# Altium schematic symbol library Reference_Voltage.SchLib: 259 symbols (part 1 of 3)
Pins are listed as number, name and electrical type; pins without a type are passive.

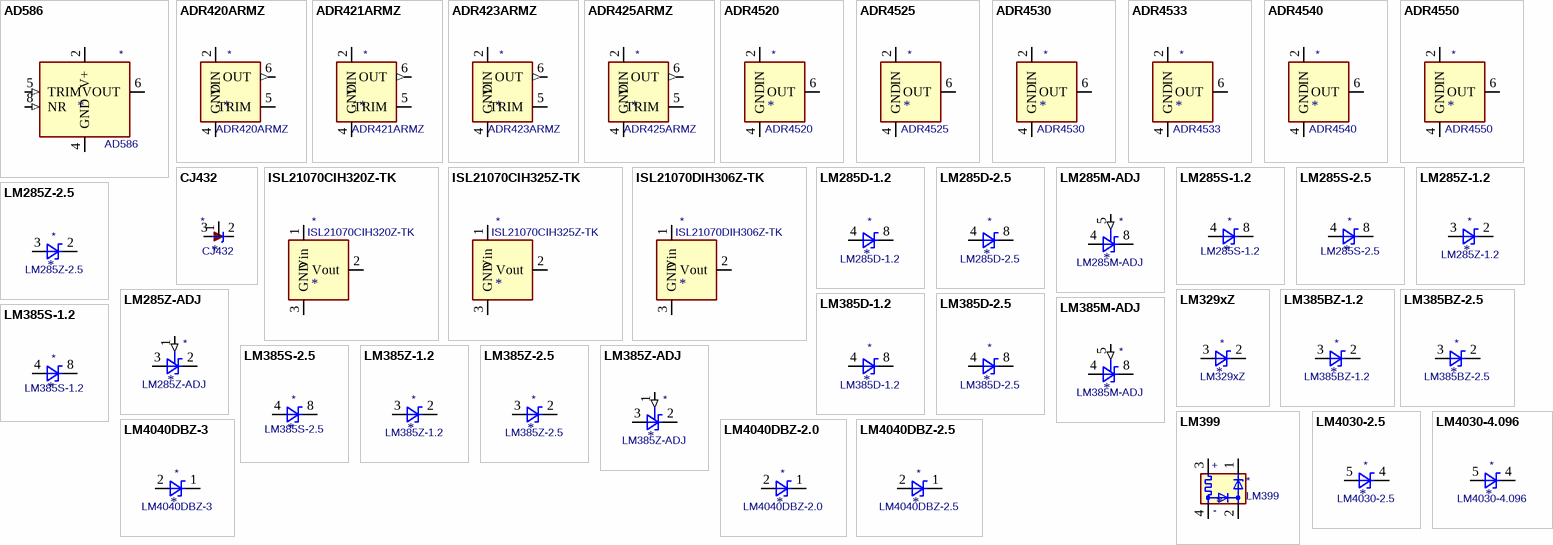
[diagram p0: symbols AD586 to LM4040DBZ-3]

## AD586
designator *  value AD586
ki_keywords: voltage reference; ki_description: High Precision, 5V Reference, DIP-8, SO-8; ki_fp_filters: DIP*W7.62mm* SOIC*3.9x4.9mm*P1.27mm*; Supplier: https://www.analog.com/media/en/technical-documentation/data-sheets/AD586.pdf
pins: 1 NC (in) hidden, 2 V+ (power), 3 NC (in) hidden, 4 GND (power), 5 TRIM (in), 6 VOUT (power), 7 NC (in) hidden, 8 NR (in)

## ADR420ARMZ
designator *  value ADR420ARMZ
ki_keywords: voltage reference Ultraprecision Low Noise; ki_description: 2.048V Voltage Reference, Ultraprecision, Low Noise, MSOP-8; ki_fp_filters: MSOP*3x3mm*P0.65mm*; Footprint: Package_SO:MSOP-8_3x3mm_P0.65mm; Supplier: https://www.analog.com/media/en/technical-documentation/data-sheets/adr420_421_423_425.pdf
footprint MSOP-8_3x3mm_P0.65mm
pins: 1 TP (in) hidden, 2 VIN (power), 3 NC (in) hidden, 4 GND (power), 5 TRIM, 6 OUT (out), 7 NC (in) hidden, 8 TP (in) hidden

## ADR421ARMZ
designator *  value ADR421ARMZ
ki_keywords: 2.5V voltage reference; ki_description: 2.50V Voltage Reference, Ultraprecision, Low Noise, MSOP-8; ki_fp_filters: MSOP*3x3mm*P0.65mm*; Footprint: Package_SO:MSOP-8_3x3mm_P0.65mm; Supplier: https://www.analog.com/media/en/technical-documentation/data-sheets/adr420_421_423_425.pdf
footprint MSOP-8_3x3mm_P0.65mm
pins: 1 TP (in) hidden, 2 VIN (power), 3 NC (in) hidden, 4 GND (power), 5 TRIM, 6 OUT (out), 7 NC (in) hidden, 8 TP (in) hidden

## ADR423ARMZ
designator *  value ADR423ARMZ
ki_keywords: 3V voltage reference; ki_description: 3.00V Voltage Reference, Ultraprecision, Low Noise, MSOP-8; ki_fp_filters: MSOP*3x3mm*P0.65mm*; Footprint: Package_SO:MSOP-8_3x3mm_P0.65mm; Supplier: https://www.analog.com/media/en/technical-documentation/data-sheets/adr420_421_423_425.pdf
footprint MSOP-8_3x3mm_P0.65mm
pins: 1 TP (in) hidden, 2 VIN (power), 3 NC (in) hidden, 4 GND (power), 5 TRIM, 6 OUT (out), 7 NC (in) hidden, 8 TP (in) hidden

## ADR425ARMZ
designator *  value ADR425ARMZ
ki_keywords: 5V voltage reference; ki_description: 5.00V Voltage Reference, Ultraprecision, Low Noise, MSOP-8; ki_fp_filters: MSOP*3x3mm*P0.65mm*; Footprint: Package_SO:MSOP-8_3x3mm_P0.65mm; Supplier: https://www.analog.com/media/en/technical-documentation/data-sheets/adr420_421_423_425.pdf
footprint MSOP-8_3x3mm_P0.65mm
pins: 1 TP (in) hidden, 2 VIN (power), 3 NC (in) hidden, 4 GND (power), 5 TRIM, 6 OUT (out), 7 NC (in) hidden, 8 TP (in) hidden

## ADR4520
designator *  value ADR4520
ki_keywords: vref; ki_description: 2.048V, Ultralow Noise, High Accuracy Voltage Reference, SOIC-8; ki_fp_filters: SOIC*3.9x4.9mm*P1.27mm*; Footprint: Package_SO:SOIC-8_3.9x4.9mm_P1.27mm; Supplier: https://www.analog.com/media/en/technical-documentation/data-sheets/ADR4520_4525_4530_4533_4540_4550.pdf
footprint SOIC-8_3.9x4.9mm_P1.27mm
pins: 1 NC (in) hidden, 2 IN (power), 3 NC (in) hidden, 4 GND (power), 5 NC (in) hidden, 6 OUT (power), 7 NC (in) hidden, 8 NC (in) hidden

## ADR4525
designator *  value ADR4525
ki_keywords: vref; ki_description: 2.5V, Ultralow Noise, High Accuracy Voltage Reference, SOIC-8; ki_fp_filters: SOIC*3.9x4.9mm*P1.27mm*; Footprint: Package_SO:SOIC-8_3.9x4.9mm_P1.27mm; Supplier: https://www.analog.com/media/en/technical-documentation/data-sheets/ADR4520_4525_4530_4533_4540_4550.pdf
footprint SOIC-8_3.9x4.9mm_P1.27mm
pins: 1 NC (in) hidden, 2 IN (power), 3 NC (in) hidden, 4 GND (power), 5 NC (in) hidden, 6 OUT (power), 7 NC (in) hidden, 8 NC (in) hidden

## ADR4530
designator *  value ADR4530
ki_keywords: vref; ki_description: 3.0V,  Ultralow Noise, High Accuracy Voltage Reference, SOIC-8; ki_fp_filters: SOIC*3.9x4.9mm*P1.27mm*; Footprint: Package_SO:SOIC-8_3.9x4.9mm_P1.27mm; Supplier: https://www.analog.com/media/en/technical-documentation/data-sheets/ADR4520_4525_4530_4533_4540_4550.pdf
footprint SOIC-8_3.9x4.9mm_P1.27mm
pins: 1 NC (in) hidden, 2 IN (power), 3 NC (in) hidden, 4 GND (power), 5 NC (in) hidden, 6 OUT (power), 7 NC (in) hidden, 8 NC (in) hidden

## ADR4533
designator *  value ADR4533
ki_keywords: vref; ki_description: 3.3V,  Ultralow Noise, High Accuracy Voltage Reference, SOIC-8; ki_fp_filters: SOIC*3.9x4.9mm*P1.27mm*; Footprint: Package_SO:SOIC-8_3.9x4.9mm_P1.27mm; Supplier: https://www.analog.com/media/en/technical-documentation/data-sheets/ADR4520_4525_4530_4533_4540_4550.pdf
footprint SOIC-8_3.9x4.9mm_P1.27mm
pins: 1 NC (in) hidden, 2 IN (power), 3 NC (in) hidden, 4 GND (power), 5 NC (in) hidden, 6 OUT (power), 7 NC (in) hidden, 8 NC (in) hidden

## ADR4540
designator *  value ADR4540
ki_keywords: vref; ki_description: 4.096V,  Ultralow Noise, High Accuracy Voltage Reference, SOIC-8; ki_fp_filters: SOIC*3.9x4.9mm*P1.27mm*; Footprint: Package_SO:SOIC-8_3.9x4.9mm_P1.27mm; Supplier: https://www.analog.com/media/en/technical-documentation/data-sheets/ADR4520_4525_4530_4533_4540_4550.pdf
footprint SOIC-8_3.9x4.9mm_P1.27mm
pins: 1 NC (in) hidden, 2 IN (power), 3 NC (in) hidden, 4 GND (power), 5 NC (in) hidden, 6 OUT (power), 7 NC (in) hidden, 8 NC (in) hidden

## ADR4550
designator *  value ADR4550
ki_keywords: vref; ki_description: 5.0V,  Ultralow Noise, High Accuracy Voltage Reference, SOIC-8; ki_fp_filters: SOIC*3.9x4.9mm*P1.27mm*; Footprint: Package_SO:SOIC-8_3.9x4.9mm_P1.27mm; Supplier: https://www.analog.com/media/en/technical-documentation/data-sheets/ADR4520_4525_4530_4533_4540_4550.pdf
footprint SOIC-8_3.9x4.9mm_P1.27mm
pins: 1 NC (in) hidden, 2 IN (power), 3 NC (in) hidden, 4 GND (power), 5 NC (in) hidden, 6 OUT (power), 7 NC (in) hidden, 8 NC (in) hidden

## CJ432
designator *  value CJ432
ki_keywords: diode device shunt regulator; ki_description: Shunt Regulator, SOT-23; ki_fp_filters: SOT?23*; Footprint: Package_TO_SOT_SMD:SOT-23; Supplier: http://www.cj-elec.com/txUpfile/20134181474991806.pdf
footprint SOT-23
pins: 1 REF, 2 K, 3 A

## ISL21070CIH320Z-TK
designator *  value ISL21070CIH320Z-TK
ki_keywords: Micropower Voltage Reference 2.0V; ki_description: 2.0V 25μA Micropower Voltage Reference, SOT-23; ki_fp_filters: SOT?23*; Footprint: Package_TO_SOT_SMD:SOT-23; Supplier: http://www.intersil.com/content/dam/Intersil/documents/fn75/fn7599.pdf
footprint SOT-23
pins: 1 Vin (power), 2 Vout (power), 3 GND (power)

## ISL21070CIH325Z-TK
designator *  value ISL21070CIH325Z-TK
ki_keywords: Micropower Voltage Reference 2.5V; ki_description: 2.5V 25μA Micropower Voltage Reference, SOT-23; ki_fp_filters: SOT?23*; Footprint: Package_TO_SOT_SMD:SOT-23; Supplier: http://www.intersil.com/content/dam/Intersil/documents/fn75/fn7599.pdf
footprint SOT-23
pins: 1 Vin (power), 2 Vout (power), 3 GND (power)

## ISL21070DIH306Z-TK
designator *  value ISL21070DIH306Z-TK
ki_keywords: Micropower Voltage Reference 0.6V; ki_description: 0.6V 25μA Micropower Voltage Reference, SOT-23; ki_fp_filters: SOT?23*; Footprint: Package_TO_SOT_SMD:SOT-23; Supplier: http://www.intersil.com/content/dam/Intersil/documents/fn75/fn7599.pdf
footprint SOT-23
pins: 1 Vin (power), 2 Vout (power), 3 GND (power)

## LM285D-1.2
designator *  value LM285D-1.2
ki_keywords: diode device voltage reference; ki_description: 1.235V Micropower Voltage Reference Diodes, SO-8; ki_fp_filters: SOIC?8*3.9x4.9m*P1.27mm*; Footprint: Package_SO:SOIC-8_3.9x4.9mm_P1.27mm; Supplier: http://www.onsemi.com/pub_link/Collateral/LM285-D.PDF
footprint SOIC-8_3.9x4.9mm_P1.27mm
pins: 4 A, 8 K

## LM285D-2.5
designator *  value LM285D-2.5
ki_keywords: diode device voltage reference; ki_description: 2.500V Micropower Voltage Reference Diodes, SO-8; ki_fp_filters: SOIC?8*3.9x4.9m*P1.27mm*; Footprint: Package_SO:SOIC-8_3.9x4.9mm_P1.27mm; Supplier: http://www.onsemi.com/pub_link/Collateral/LM285-D.PDF
footprint SOIC-8_3.9x4.9mm_P1.27mm
pins: 4 A, 8 K

## LM285M-ADJ
designator *  value LM285M-ADJ
ki_keywords: diode device voltage reference; ki_description: Adjustable Micropower Voltage Reference Diodes, SO-8; ki_fp_filters: SOIC?8*3.9x4.9m*P1.27mm*; Footprint: Package_SO:SOIC-8_3.9x4.9mm_P1.27mm; Supplier: http://www.ti.com/lit/ds/symlink/lm185-adj.pdf
footprint SOIC-8_3.9x4.9mm_P1.27mm
pins: 4 A, 5 FB (in), 8 K

## LM285S-1.2
designator *  value LM285S-1.2
ki_keywords: diode device voltage reference; ki_description: 1.235V Micropower Voltage Reference Diodes, SO-8; ki_fp_filters: SOIC?8*3.9x4.9m*P1.27mm*; Footprint: Package_SO:SOIC-8_3.9x4.9mm_P1.27mm; Supplier: https://www.analog.com/media/en/technical-documentation/data-sheets/185fc.pdf
footprint SOIC-8_3.9x4.9mm_P1.27mm
pins: 4 A, 6 K hidden, 8 K

## LM285S-2.5
designator *  value LM285S-2.5
ki_keywords: diode device voltage reference; ki_description: 2.500V Micropower Voltage Reference Diodes, SO-8; ki_fp_filters: SOIC?8*3.9x4.9m*P1.27mm*; Footprint: Package_SO:SOIC-8_3.9x4.9mm_P1.27mm; Supplier: https://www.analog.com/media/en/technical-documentation/data-sheets/185fc.pdf
footprint SOIC-8_3.9x4.9mm_P1.27mm
pins: 4 A, 6 K hidden, 8 K

## LM285Z-1.2
designator *  value LM285Z-1.2
ki_keywords: diode device voltage reference; ki_description: 1.235V Micropower Voltage Reference Diodes, TO-92; ki_fp_filters: TO?92*Inline*; Footprint: Package_TO_SOT_THT:TO-92_Inline; Supplier: http://www.onsemi.com/pub_link/Collateral/LM285-D.PDF
footprint TO-92_Inline
pins: 2 K, 3 A

## LM285Z-2.5
designator *  value LM285Z-2.5
ki_keywords: diode device voltage reference; ki_description: 2.5V Micropower Voltage Reference Diodes, TO-92; ki_fp_filters: TO?92*Inline*; Footprint: Package_TO_SOT_THT:TO-92_Inline; Supplier: http://www.onsemi.com/pub_link/Collateral/LM285-D.PDF
footprint TO-92_Inline
pins: 2 K, 3 A

## LM285Z-ADJ
designator *  value LM285Z-ADJ
ki_keywords: diode device voltage reference; ki_description: Adjustable Micropower Voltage Reference Diodes, TO-92; ki_fp_filters: TO?92*; Footprint: Package_TO_SOT_THT:TO-92_Inline; Supplier: http://www.ti.com/lit/ds/symlink/lm185-adj.pdf
footprint TO-92_Inline
pins: 1 FB (in), 2 K, 3 A

## LM329xZ
designator *  value LM329xZ
ki_keywords: diode device voltage reference shunt; ki_description: 6.9V Precision Voltage Reference, TO-92; ki_fp_filters: TO?92*; Footprint: Package_TO_SOT_THT:TO-92_Inline; Supplier: https://www.analog.com/media/en/technical-documentation/data-sheets/129329fd.pdf
footprint TO-92_Inline
pins: 1 NC (in) hidden, 2 K, 3 A

## LM385BZ-1.2
designator *  value LM385BZ-1.2
ki_keywords: diode device voltage reference; ki_description: 1.235V Micropower Voltage Reference Diodes, TO-92; ki_fp_filters: TO?92*Inline*; Footprint: Package_TO_SOT_THT:TO-92_Inline; Supplier: http://www.onsemi.com/pub_link/Collateral/LM285-D.PDF
footprint TO-92_Inline
pins: 2 K, 3 A

## LM385BZ-2.5
designator *  value LM385BZ-2.5
ki_keywords: diode device voltage reference; ki_description: 2.5V Micropower Voltage Reference Diodes, TO-92; ki_fp_filters: TO?92*Inline*; Footprint: Package_TO_SOT_THT:TO-92_Inline; Supplier: http://www.onsemi.com/pub_link/Collateral/LM285-D.PDF
footprint TO-92_Inline
pins: 2 K, 3 A

## LM385D-1.2
designator *  value LM385D-1.2
ki_keywords: diode device voltage reference; ki_description: 1.235V Micropower Voltage Reference Diodes, SO-8; ki_fp_filters: SOIC?8*3.9x4.9m*P1.27mm*; Footprint: Package_SO:SOIC-8_3.9x4.9mm_P1.27mm; Supplier: http://www.onsemi.com/pub_link/Collateral/LM285-D.PDF
footprint SOIC-8_3.9x4.9mm_P1.27mm
pins: 4 A, 8 K

## LM385D-2.5
designator *  value LM385D-2.5
ki_keywords: diode device voltage reference; ki_description: 2.500V Micropower Voltage Reference Diodes, SO-8; ki_fp_filters: SOIC?8*3.9x4.9m*P1.27mm*; Footprint: Package_SO:SOIC-8_3.9x4.9mm_P1.27mm; Supplier: http://www.onsemi.com/pub_link/Collateral/LM285-D.PDF
footprint SOIC-8_3.9x4.9mm_P1.27mm
pins: 4 A, 8 K

## LM385M-ADJ
designator *  value LM385M-ADJ
ki_keywords: diode device voltage reference; ki_description: Adjustable Micropower Voltage Reference Diodes, SO-8; ki_fp_filters: SOIC?8*3.9x4.9m*P1.27mm*; Footprint: Package_SO:SOIC-8_3.9x4.9mm_P1.27mm; Supplier: http://www.ti.com/lit/ds/symlink/lm185-adj.pdf
footprint SOIC-8_3.9x4.9mm_P1.27mm
pins: 4 A, 5 FB (in), 8 K

## LM385S-1.2
designator *  value LM385S-1.2
ki_keywords: diode device voltage reference; ki_description: 1.235V Micropower Voltage Reference Diodes, SO-8; ki_fp_filters: SOIC?8*3.9x4.9m*P1.27mm*; Footprint: Package_SO:SOIC-8_3.9x4.9mm_P1.27mm; Supplier: https://www.analog.com/media/en/technical-documentation/data-sheets/185fc.pdf
footprint SOIC-8_3.9x4.9mm_P1.27mm
pins: 4 A, 6 K hidden, 8 K

## LM385S-2.5
designator *  value LM385S-2.5
ki_keywords: diode device voltage reference; ki_description: 2.500V Micropower Voltage Reference Diodes, SO-8; ki_fp_filters: SOIC?8*3.9x4.9m*P1.27mm*; Footprint: Package_SO:SOIC-8_3.9x4.9mm_P1.27mm; Supplier: https://www.analog.com/media/en/technical-documentation/data-sheets/185fc.pdf
footprint SOIC-8_3.9x4.9mm_P1.27mm
pins: 4 A, 6 K hidden, 8 K

## LM385Z-1.2
designator *  value LM385Z-1.2
ki_keywords: diode device voltage reference; ki_description: 1.235V Micropower Voltage Reference Diodes, TO-92; ki_fp_filters: TO?92*Inline*; Footprint: Package_TO_SOT_THT:TO-92_Inline; Supplier: http://www.onsemi.com/pub_link/Collateral/LM285-D.PDF
footprint TO-92_Inline
pins: 2 K, 3 A

## LM385Z-2.5
designator *  value LM385Z-2.5
ki_keywords: diode device voltage reference; ki_description: 2.5V Micropower Voltage Reference Diodes, TO-92; ki_fp_filters: TO?92*Inline*; Footprint: Package_TO_SOT_THT:TO-92_Inline; Supplier: http://www.onsemi.com/pub_link/Collateral/LM285-D.PDF
footprint TO-92_Inline
pins: 2 K, 3 A

## LM385Z-ADJ
designator *  value LM385Z-ADJ
ki_keywords: diode device voltage reference; ki_description: Adjustable Micropower Voltage Reference Diodes, TO-92; ki_fp_filters: TO?92*; Footprint: Package_TO_SOT_THT:TO-92_Inline; Supplier: http://www.ti.com/lit/ds/symlink/lm185-adj.pdf
footprint TO-92_Inline
pins: 1 FB (in), 2 K, 3 A

## LM399
designator *  value LM399
ki_keywords: Zener diode device voltage reference; ki_description: Precision Reference, 6.95V, Buried Zener Diode with Thermal Shielding Can, TO-46-4; ki_fp_filters: Analog*TO?46*; Footprint: Package_TO_SOT_THT:Analog_TO-46-4_ThermalShield; Supplier: https://www.analog.com/media/en/technical-documentation/data-sheets/199399fc.pdf
footprint Analog_TO-46-4_ThermalShield
pins: 1, 2, 3 (power), 4 (power)
text: +; -

## LM4030-2.5
designator *  value LM4030-2.5
ki_keywords: diode device voltage reference shunt; ki_description: 2.500V Ultra-High Precision Shunt Voltage Reference, SOT-23-5; ki_fp_filters: SOT?23?5*; Footprint: Package_TO_SOT_SMD:SOT-23-5; Supplier: http://www.ti.com/lit/ds/symlink/lm4030.pdf
footprint SOT-23-5
pins: 4 K, 5 A

## LM4030-4.096
designator *  value LM4030-4.096
ki_keywords: diode device voltage reference shunt; ki_description: 4.096V Ultra-High Precision Shunt Voltage Reference, SOT-23-5; ki_fp_filters: SOT?23?5*; Footprint: Package_TO_SOT_SMD:SOT-23-5; Supplier: http://www.ti.com/lit/ds/symlink/lm4030.pdf
footprint SOT-23-5
pins: 4 K, 5 A

## LM4040DBZ-2.0
designator *  value LM4040DBZ-2.0
ki_keywords: diode device voltage reference shunt; ki_description: 2.048V Precision Micropower Shunt Voltage Reference, SOT-23; ki_fp_filters: SOT?23*; Footprint: Package_TO_SOT_SMD:SOT-23; Supplier: http://www.ti.com/lit/ds/symlink/lm4040-n.pdf
footprint SOT-23
pins: 1 K, 2 A

## LM4040DBZ-2.5
designator *  value LM4040DBZ-2.5
ki_keywords: diode device voltage reference shunt; ki_description: 2.500V Precision Micropower Shunt Voltage Reference, SOT-23; ki_fp_filters: SOT?23*; Footprint: Package_TO_SOT_SMD:SOT-23; Supplier: http://www.ti.com/lit/ds/symlink/lm4040-n.pdf
footprint SOT-23
pins: 1 K, 2 A

## LM4040DBZ-3
designator *  value LM4040DBZ-3
ki_keywords: diode device voltage reference shunt; ki_description: 3.000V Precision Micropower Shunt Voltage Reference, SOT-23; ki_fp_filters: SOT?23*; Footprint: Package_TO_SOT_SMD:SOT-23; Supplier: http://www.ti.com/lit/ds/symlink/lm4040-n.pdf
footprint SOT-23
pins: 1 K, 2 A

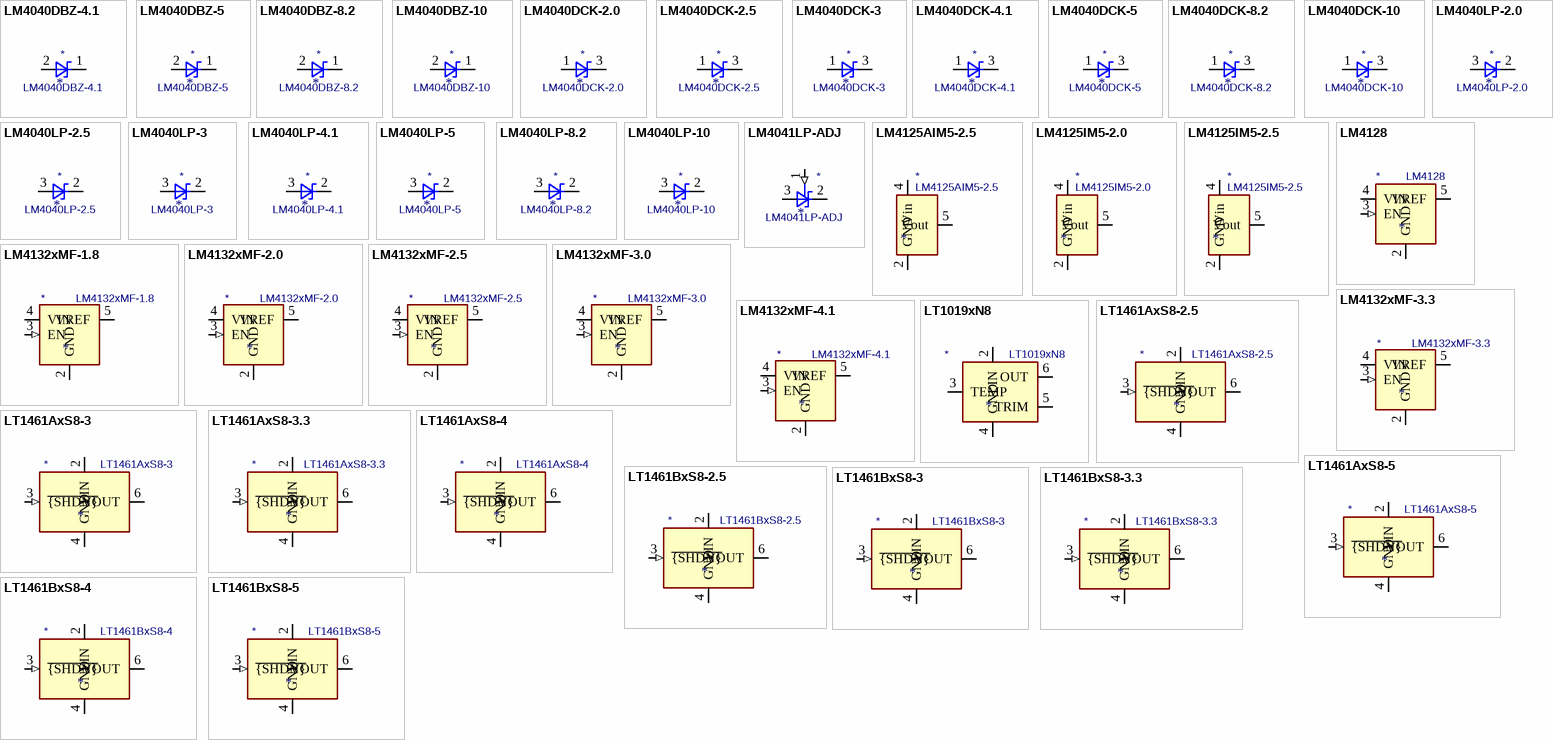
[diagram p1: symbols LM4040DBZ-4.1 to LT1461BxS8-5]

## LM4040DBZ-4.1
designator *  value LM4040DBZ-4.1
ki_keywords: diode device voltage reference shunt; ki_description: 4.096V Precision Micropower Shunt Voltage Reference, SOT-23; ki_fp_filters: SOT?23*; Footprint: Package_TO_SOT_SMD:SOT-23; Supplier: http://www.ti.com/lit/ds/symlink/lm4040-n.pdf
footprint SOT-23
pins: 1 K, 2 A

## LM4040DBZ-5
designator *  value LM4040DBZ-5
ki_keywords: diode device voltage reference shunt; ki_description: 5.000V Precision Micropower Shunt Voltage Reference, SOT-23; ki_fp_filters: SOT?23*; Footprint: Package_TO_SOT_SMD:SOT-23; Supplier: http://www.ti.com/lit/ds/symlink/lm4040-n.pdf
footprint SOT-23
pins: 1 K, 2 A

## LM4040DBZ-8.2
designator *  value LM4040DBZ-8.2
ki_keywords: diode device voltage reference shunt; ki_description: 8.192V Precision Micropower Shunt Voltage Reference, SOT-23; ki_fp_filters: SOT?23*; Footprint: Package_TO_SOT_SMD:SOT-23; Supplier: http://www.ti.com/lit/ds/symlink/lm4040-n.pdf
footprint SOT-23
pins: 1 K, 2 A

## LM4040DBZ-10
designator *  value LM4040DBZ-10
ki_keywords: diode device voltage reference shunt; ki_description: 10.00V Precision Micropower Shunt Voltage Reference, SOT-23; ki_fp_filters: SOT?23*; Footprint: Package_TO_SOT_SMD:SOT-23; Supplier: http://www.ti.com/lit/ds/symlink/lm4040-n.pdf
footprint SOT-23
pins: 1 K, 2 A

## LM4040DCK-2.0
designator *  value LM4040DCK-2.0
ki_keywords: diode device voltage reference shunt; ki_description: 2.048V Precision Micropower Shunt Voltage Reference, SC-70; ki_fp_filters: SOT?353*; Footprint: Package_TO_SOT_SMD:SOT-353_SC-70-5; Supplier: http://www.ti.com/lit/ds/symlink/lm4040-n.pdf
footprint SOT-353_SC-70-5
pins: 1 A, 3 K

## LM4040DCK-2.5
designator *  value LM4040DCK-2.5
ki_keywords: diode device voltage reference shunt; ki_description: 2.500V Precision Micropower Shunt Voltage Reference, SC-70; ki_fp_filters: SOT?353*; Footprint: Package_TO_SOT_SMD:SOT-353_SC-70-5; Supplier: http://www.ti.com/lit/ds/symlink/lm4040-n.pdf
footprint SOT-353_SC-70-5
pins: 1 A, 3 K

## LM4040DCK-3
designator *  value LM4040DCK-3
ki_keywords: diode device voltage reference shunt; ki_description: 3.000V Precision Micropower Shunt Voltage Reference, SC-70; ki_fp_filters: SOT?353*; Footprint: Package_TO_SOT_SMD:SOT-353_SC-70-5; Supplier: http://www.ti.com/lit/ds/symlink/lm4040-n.pdf
footprint SOT-353_SC-70-5
pins: 1 A, 3 K

## LM4040DCK-4.1
designator *  value LM4040DCK-4.1
ki_keywords: diode device voltage reference shunt; ki_description: 4.096V Precision Micropower Shunt Voltage Reference, SC-70; ki_fp_filters: SOT?353*; Footprint: Package_TO_SOT_SMD:SOT-353_SC-70-5; Supplier: http://www.ti.com/lit/ds/symlink/lm4040-n.pdf
footprint SOT-353_SC-70-5
pins: 1 A, 3 K

## LM4040DCK-5
designator *  value LM4040DCK-5
ki_keywords: diode device voltage reference shunt; ki_description: 5.000V Precision Micropower Shunt Voltage Reference, SC-70; ki_fp_filters: SOT?353*; Footprint: Package_TO_SOT_SMD:SOT-353_SC-70-5; Supplier: http://www.ti.com/lit/ds/symlink/lm4040-n.pdf
footprint SOT-353_SC-70-5
pins: 1 A, 3 K

## LM4040DCK-8.2
designator *  value LM4040DCK-8.2
ki_keywords: diode device voltage reference shunt; ki_description: 8.192V Precision Micropower Shunt Voltage Reference, SC-70; ki_fp_filters: SOT?353*; Footprint: Package_TO_SOT_SMD:SOT-353_SC-70-5; Supplier: http://www.ti.com/lit/ds/symlink/lm4040-n.pdf
footprint SOT-353_SC-70-5
pins: 1 A, 3 K

## LM4040DCK-10
designator *  value LM4040DCK-10
ki_keywords: diode device voltage reference shunt; ki_description: 10.0V Precision Micropower Shunt Voltage Reference, SC-70; ki_fp_filters: SOT?353*; Footprint: Package_TO_SOT_SMD:SOT-353_SC-70-5; Supplier: http://www.ti.com/lit/ds/symlink/lm4040-n.pdf
footprint SOT-353_SC-70-5
pins: 1 A, 3 K

## LM4040LP-2.0
designator *  value LM4040LP-2.0
ki_keywords: diode device voltage reference shunt; ki_description: 2.048V Precision Micropower Shunt Voltage Reference, TO-92; ki_fp_filters: TO?92*Inline*; Footprint: Package_TO_SOT_THT:TO-92_Inline; Supplier: http://www.ti.com/lit/ds/symlink/lm4040-n.pdf
footprint TO-92_Inline
pins: 2 K, 3 A

## LM4040LP-2.5
designator *  value LM4040LP-2.5
ki_keywords: diode device voltage reference shunt; ki_description: 2.500V Precision Micropower Shunt Voltage Reference, TO-92; ki_fp_filters: TO?92*Inline*; Footprint: Package_TO_SOT_THT:TO-92_Inline; Supplier: http://www.ti.com/lit/ds/symlink/lm4040-n.pdf
footprint TO-92_Inline
pins: 2 K, 3 A

## LM4040LP-3
designator *  value LM4040LP-3
ki_keywords: diode device voltage reference shunt; ki_description: 3.000V Precision Micropower Shunt Voltage Reference, TO-92; ki_fp_filters: TO?92*Inline*; Footprint: Package_TO_SOT_THT:TO-92_Inline; Supplier: http://www.ti.com/lit/ds/symlink/lm4040-n.pdf
footprint TO-92_Inline
pins: 2 K, 3 A

## LM4040LP-4.1
designator *  value LM4040LP-4.1
ki_keywords: diode device voltage reference shunt; ki_description: 4.096V Precision Micropower Shunt Voltage Reference, TO-92; ki_fp_filters: TO?92*Inline*; Footprint: Package_TO_SOT_THT:TO-92_Inline; Supplier: http://www.ti.com/lit/ds/symlink/lm4040-n.pdf
footprint TO-92_Inline
pins: 2 K, 3 A

## LM4040LP-5
designator *  value LM4040LP-5
ki_keywords: diode device voltage reference shunt; ki_description: 5.000V Precision Micropower Shunt Voltage Reference, TO-92; ki_fp_filters: TO?92*Inline*; Footprint: Package_TO_SOT_THT:TO-92_Inline; Supplier: http://www.ti.com/lit/ds/symlink/lm4040-n.pdf
footprint TO-92_Inline
pins: 2 K, 3 A

## LM4040LP-8.2
designator *  value LM4040LP-8.2
ki_keywords: diode device voltage reference shunt; ki_description: 8.192V Precision Micropower Shunt Voltage Reference, TO-92; ki_fp_filters: TO?92*Inline*; Footprint: Package_TO_SOT_THT:TO-92_Inline; Supplier: http://www.ti.com/lit/ds/symlink/lm4040-n.pdf
footprint TO-92_Inline
pins: 2 K, 3 A

## LM4040LP-10
designator *  value LM4040LP-10
ki_keywords: diode device voltage reference shunt; ki_description: 10.00V Precision Micropower Shunt Voltage Reference, TO-92; ki_fp_filters: TO?92*Inline*; Footprint: Package_TO_SOT_THT:TO-92_Inline; Supplier: http://www.ti.com/lit/ds/symlink/lm4040-n.pdf
footprint TO-92_Inline
pins: 2 K, 3 A

## LM4041LP-ADJ
designator *  value LM4041LP-ADJ
ki_keywords: diode device voltage reference shunt; ki_description: Adjustable Precision Micropower Shunt Voltage Reference, TO-92; ki_fp_filters: TO?92*; Footprint: Package_TO_SOT_THT:TO-92_Inline; Supplier: http://www.ti.com/lit/ds/symlink/lm4041-n.pdf
footprint TO-92_Inline
pins: 1 FB (in), 2 K, 3 A

## LM4125AIM5-2.5
designator *  value LM4125AIM5-2.5
ki_keywords: Precision Micropower Low Dropout Voltage Reference 2.5V; ki_description: 2.5V ±0.2% Precision Micropower Low Dropout Voltage Reference, SOT-23-5; ki_fp_filters: SOT?23*; Footprint: Package_TO_SOT_SMD:SOT-23-5; Supplier: http://www.ti.com/lit/ds/symlink/lm4125.pdf
footprint SOT-23-5
pins: 1 NC (in) hidden, 2 GND (power), 3 NC (in) hidden, 4 Vin (power), 5 Vout (power)

## LM4125IM5-2.0
designator *  value LM4125IM5-2.0
ki_keywords: Precision Micropower Low Dropout Voltage Reference 2V; ki_description: 2V ±0.5% Precision Micropower Low Dropout Voltage Reference, SOT-23-5; ki_fp_filters: SOT?23*; Footprint: Package_TO_SOT_SMD:SOT-23-5; Supplier: http://www.ti.com/lit/ds/symlink/lm4125.pdf
footprint SOT-23-5
pins: 1 NC (in) hidden, 2 GND (power), 3 NC (in) hidden, 4 Vin (power), 5 Vout (power)

## LM4125IM5-2.5
designator *  value LM4125IM5-2.5
ki_keywords: Precision Micropower Low Dropout Voltage Reference 2.5V; ki_description: 2.5V ±0.5% Precision Micropower Low Dropout Voltage Reference, SOT-23-5; ki_fp_filters: SOT?23*; Footprint: Package_TO_SOT_SMD:SOT-23-5; Supplier: http://www.ti.com/lit/ds/symlink/lm4125.pdf
footprint SOT-23-5
pins: 1 NC (in) hidden, 2 GND (power), 3 NC (in) hidden, 4 Vin (power), 5 Vout (power)

## LM4128
designator *  value LM4128
ki_keywords: Precision Micropower Low Dropout Voltage Reference 2.5V; ki_description: 2.5V ±0.2% Precision Micropower Low Dropout Voltage Reference, SOT-23-5; ki_fp_filters: SOT?23*; Footprint: Package_TO_SOT_SMD:SOT-23-5; Supplier: http://www.ti.com/lit/ds/symlink/lm4128.pdf
footprint SOT-23-5
pins: 1 NC (in) hidden, 2 GND (power), 3 EN (in), 4 VIN (power), 5 VREF (power)

## LM4132xMF-1.8
designator *  value LM4132xMF-1.8
ki_keywords: Precision Low Dropout Voltage Reference 1.8V; ki_description: Precision Low Dropout Voltage Reference, 1.8V, ±0.05% to ±0.5%, SOT-23-5; ki_fp_filters: SOT?23*; Footprint: Package_TO_SOT_SMD:SOT-23-5; Supplier: http://www.ti.com/lit/ds/symlink/lm4132.pdf
footprint SOT-23-5
pins: 1 NC (in) hidden, 2 GND (power), 3 EN (in), 4 VIN (power), 5 VREF (power)

## LM4132xMF-2.0
designator *  value LM4132xMF-2.0
ki_keywords: Precision Low Dropout Voltage Reference 2.048V; ki_description: Precision Low Dropout Voltage Reference, 2.048V, ±0.05% to ±0.5%, SOT-23-5; ki_fp_filters: SOT?23*; Footprint: Package_TO_SOT_SMD:SOT-23-5; Supplier: http://www.ti.com/lit/ds/symlink/lm4132.pdf
footprint SOT-23-5
pins: 1 NC (in) hidden, 2 GND (power), 3 EN (in), 4 VIN (power), 5 VREF (power)

## LM4132xMF-2.5
designator *  value LM4132xMF-2.5
ki_keywords: Precision Low Dropout Voltage Reference 2.5V; ki_description: Precision Low Dropout Voltage Reference, 2.5V, ±0.05% to ±0.5%, SOT-23-5; ki_fp_filters: SOT?23*; Footprint: Package_TO_SOT_SMD:SOT-23-5; Supplier: http://www.ti.com/lit/ds/symlink/lm4132.pdf
footprint SOT-23-5
pins: 1 NC (in) hidden, 2 GND (power), 3 EN (in), 4 VIN (power), 5 VREF (power)

## LM4132xMF-3.0
designator *  value LM4132xMF-3.0
ki_keywords: Precision Low Dropout Voltage Reference 3.0V; ki_description: Precision Low Dropout Voltage Reference, 3.0V, ±0.05% to ±0.5%, SOT-23-5; ki_fp_filters: SOT?23*; Footprint: Package_TO_SOT_SMD:SOT-23-5; Supplier: http://www.ti.com/lit/ds/symlink/lm4132.pdf
footprint SOT-23-5
pins: 1 NC (in) hidden, 2 GND (power), 3 EN (in), 4 VIN (power), 5 VREF (power)

## LM4132xMF-3.3
designator *  value LM4132xMF-3.3
ki_keywords: Precision Low Dropout Voltage Reference 3.3V; ki_description: Precision Low Dropout Voltage Reference, 3.3V, ±0.05% to ±0.5%, SOT-23-5; ki_fp_filters: SOT?23*; Footprint: Package_TO_SOT_SMD:SOT-23-5; Supplier: http://www.ti.com/lit/ds/symlink/lm4132.pdf
footprint SOT-23-5
pins: 1 NC (in) hidden, 2 GND (power), 3 EN (in), 4 VIN (power), 5 VREF (power)

## LM4132xMF-4.1
designator *  value LM4132xMF-4.1
ki_keywords: Precision Low Dropout Voltage Reference 4.096V; ki_description: Precision Low Dropout Voltage Reference, 4.096V, ±0.05% to ±0.5%, SOT-23-5; ki_fp_filters: SOT?23*; Footprint: Package_TO_SOT_SMD:SOT-23-5; Supplier: http://www.ti.com/lit/ds/symlink/lm4132.pdf
footprint SOT-23-5
pins: 1 NC (in) hidden, 2 GND (power), 3 EN (in), 4 VIN (power), 5 VREF (power)

## LT1019xN8
designator *  value LT1019xN8
ki_keywords: voltage reference vref; ki_description: Precision Reference, Ultra Low Drift, DIP-8; ki_fp_filters: DIP*W7.62mm*; Footprint: Package_DIP:DIP-8_W7.62mm; Supplier: https://www.analog.com/media/en/technical-documentation/data-sheets/1019fd.pdf
footprint DIP-8_W7.62mm
pins: 1 DNC (in) hidden, 2 IN (power), 3 TEMP, 4 GND (power), 5 TRIM, 6 OUT (power), 7 DNC (in) hidden, 8 DNC (in) hidden

## LT1461AxS8-2.5
designator *  value LT1461AxS8-2.5
ki_keywords: voltage reference precision; ki_description: Voltage Reference, +/-0.04%, 2.5V, 100mA, 3V-20V Vin, SOIC-8; ki_fp_filters: SOIC*3.9x4.9mm*P1.27mm*; Footprint: Package_SO:SOIC-8_3.9x4.9mm_P1.27mm; Supplier: https://www.analog.com/media/en/technical-documentation/data-sheets/LT1461.pdf
footprint SOIC-8_3.9x4.9mm_P1.27mm
pins: 1 DNC (in) hidden, 2 VIN (power), 3 ~{{SHDN}} (in), 4 GND (power), 5 DNC (in) hidden, 6 VOUT (power), 7 DNC (in) hidden, 8 DNC (in) hidden

## LT1461AxS8-3
designator *  value LT1461AxS8-3
ki_keywords: voltage reference precision; ki_description: Voltage Reference, +/-0.04%, 3V, 100mA, 3.5V-20V Vin, SOIC-8; ki_fp_filters: SOIC*3.9x4.9mm*P1.27mm*; Footprint: Package_SO:SOIC-8_3.9x4.9mm_P1.27mm; Supplier: https://www.analog.com/media/en/technical-documentation/data-sheets/LT1461.pdf
footprint SOIC-8_3.9x4.9mm_P1.27mm
pins: 1 DNC (in) hidden, 2 VIN (power), 3 ~{{SHDN}} (in), 4 GND (power), 5 DNC (in) hidden, 6 VOUT (power), 7 DNC (in) hidden, 8 DNC (in) hidden

## LT1461AxS8-3.3
designator *  value LT1461AxS8-3.3
ki_keywords: voltage reference precision; ki_description: Voltage Reference, +/-0.04%, 3.3V, 100mA, 3.8V-20V Vin, SOIC-8; ki_fp_filters: SOIC*3.9x4.9mm*P1.27mm*; Footprint: Package_SO:SOIC-8_3.9x4.9mm_P1.27mm; Supplier: https://www.analog.com/media/en/technical-documentation/data-sheets/LT1461.pdf
footprint SOIC-8_3.9x4.9mm_P1.27mm
pins: 1 DNC (in) hidden, 2 VIN (power), 3 ~{{SHDN}} (in), 4 GND (power), 5 DNC (in) hidden, 6 VOUT (power), 7 DNC (in) hidden, 8 DNC (in) hidden

## LT1461AxS8-4
designator *  value LT1461AxS8-4
ki_keywords: voltage reference precision; ki_description: Voltage Reference, +/-0.04%, 4.096V, 100mA, 4.596V-20V Vin, SOIC-8; ki_fp_filters: SOIC*3.9x4.9mm*P1.27mm*; Footprint: Package_SO:SOIC-8_3.9x4.9mm_P1.27mm; Supplier: https://www.analog.com/media/en/technical-documentation/data-sheets/LT1461.pdf
footprint SOIC-8_3.9x4.9mm_P1.27mm
pins: 1 DNC (in) hidden, 2 VIN (power), 3 ~{{SHDN}} (in), 4 GND (power), 5 DNC (in) hidden, 6 VOUT (power), 7 DNC (in) hidden, 8 DNC (in) hidden

## LT1461AxS8-5
designator *  value LT1461AxS8-5
ki_keywords: voltage reference precision; ki_description: Voltage Reference, +/-0.04%, 5V, 100mA, 5.5V-20V Vin, SOIC-8; ki_fp_filters: SOIC*3.9x4.9mm*P1.27mm*; Footprint: Package_SO:SOIC-8_3.9x4.9mm_P1.27mm; Supplier: https://www.analog.com/media/en/technical-documentation/data-sheets/LT1461.pdf
footprint SOIC-8_3.9x4.9mm_P1.27mm
pins: 1 DNC (in) hidden, 2 VIN (power), 3 ~{{SHDN}} (in), 4 GND (power), 5 DNC (in) hidden, 6 VOUT (power), 7 DNC (in) hidden, 8 DNC (in) hidden

## LT1461BxS8-2.5
designator *  value LT1461BxS8-2.5
ki_keywords: voltage reference precision; ki_description: Voltage Reference, +/-0.06%, 2.5V, 100mA, 3V-20V Vin, SOIC-8; ki_fp_filters: SOIC*3.9x4.9mm*P1.27mm*; Footprint: Package_SO:SOIC-8_3.9x4.9mm_P1.27mm; Supplier: https://www.analog.com/media/en/technical-documentation/data-sheets/LT1461.pdf
footprint SOIC-8_3.9x4.9mm_P1.27mm
pins: 1 DNC (in) hidden, 2 VIN (power), 3 ~{{SHDN}} (in), 4 GND (power), 5 DNC (in) hidden, 6 VOUT (power), 7 DNC (in) hidden, 8 DNC (in) hidden

## LT1461BxS8-3
designator *  value LT1461BxS8-3
ki_keywords: voltage reference precision; ki_description: Voltage Reference, +/-0.06%, 3V, 100mA, 3.5V-20V Vin, SOIC-8; ki_fp_filters: SOIC*3.9x4.9mm*P1.27mm*; Footprint: Package_SO:SOIC-8_3.9x4.9mm_P1.27mm; Supplier: https://www.analog.com/media/en/technical-documentation/data-sheets/LT1461.pdf
footprint SOIC-8_3.9x4.9mm_P1.27mm
pins: 1 DNC (in) hidden, 2 VIN (power), 3 ~{{SHDN}} (in), 4 GND (power), 5 DNC (in) hidden, 6 VOUT (power), 7 DNC (in) hidden, 8 DNC (in) hidden

## LT1461BxS8-3.3
designator *  value LT1461BxS8-3.3
ki_keywords: voltage reference precision; ki_description: Voltage Reference, +/-0.06%, 3.3V, 100mA, 3.8V-20V Vin, SOIC-8; ki_fp_filters: SOIC*3.9x4.9mm*P1.27mm*; Footprint: Package_SO:SOIC-8_3.9x4.9mm_P1.27mm; Supplier: https://www.analog.com/media/en/technical-documentation/data-sheets/LT1461.pdf
footprint SOIC-8_3.9x4.9mm_P1.27mm
pins: 1 DNC (in) hidden, 2 VIN (power), 3 ~{{SHDN}} (in), 4 GND (power), 5 DNC (in) hidden, 6 VOUT (power), 7 DNC (in) hidden, 8 DNC (in) hidden

## LT1461BxS8-4
designator *  value LT1461BxS8-4
ki_keywords: voltage reference precision; ki_description: Voltage Reference, +/-0.06%, 4.096V, 100mA, 4.596V-20V Vin, SOIC-8; ki_fp_filters: SOIC*3.9x4.9mm*P1.27mm*; Footprint: Package_SO:SOIC-8_3.9x4.9mm_P1.27mm; Supplier: https://www.analog.com/media/en/technical-documentation/data-sheets/LT1461.pdf
footprint SOIC-8_3.9x4.9mm_P1.27mm
pins: 1 DNC (in) hidden, 2 VIN (power), 3 ~{{SHDN}} (in), 4 GND (power), 5 DNC (in) hidden, 6 VOUT (power), 7 DNC (in) hidden, 8 DNC (in) hidden

## LT1461BxS8-5
designator *  value LT1461BxS8-5
ki_keywords: voltage reference precision; ki_description: Voltage Reference, +/-0.06%, 5V, 100mA, 5.5V-20V Vin, SOIC-8; ki_fp_filters: SOIC*3.9x4.9mm*P1.27mm*; Footprint: Package_SO:SOIC-8_3.9x4.9mm_P1.27mm; Supplier: https://www.analog.com/media/en/technical-documentation/data-sheets/LT1461.pdf
footprint SOIC-8_3.9x4.9mm_P1.27mm
pins: 1 DNC (in) hidden, 2 VIN (power), 3 ~{{SHDN}} (in), 4 GND (power), 5 DNC (in) hidden, 6 VOUT (power), 7 DNC (in) hidden, 8 DNC (in) hidden

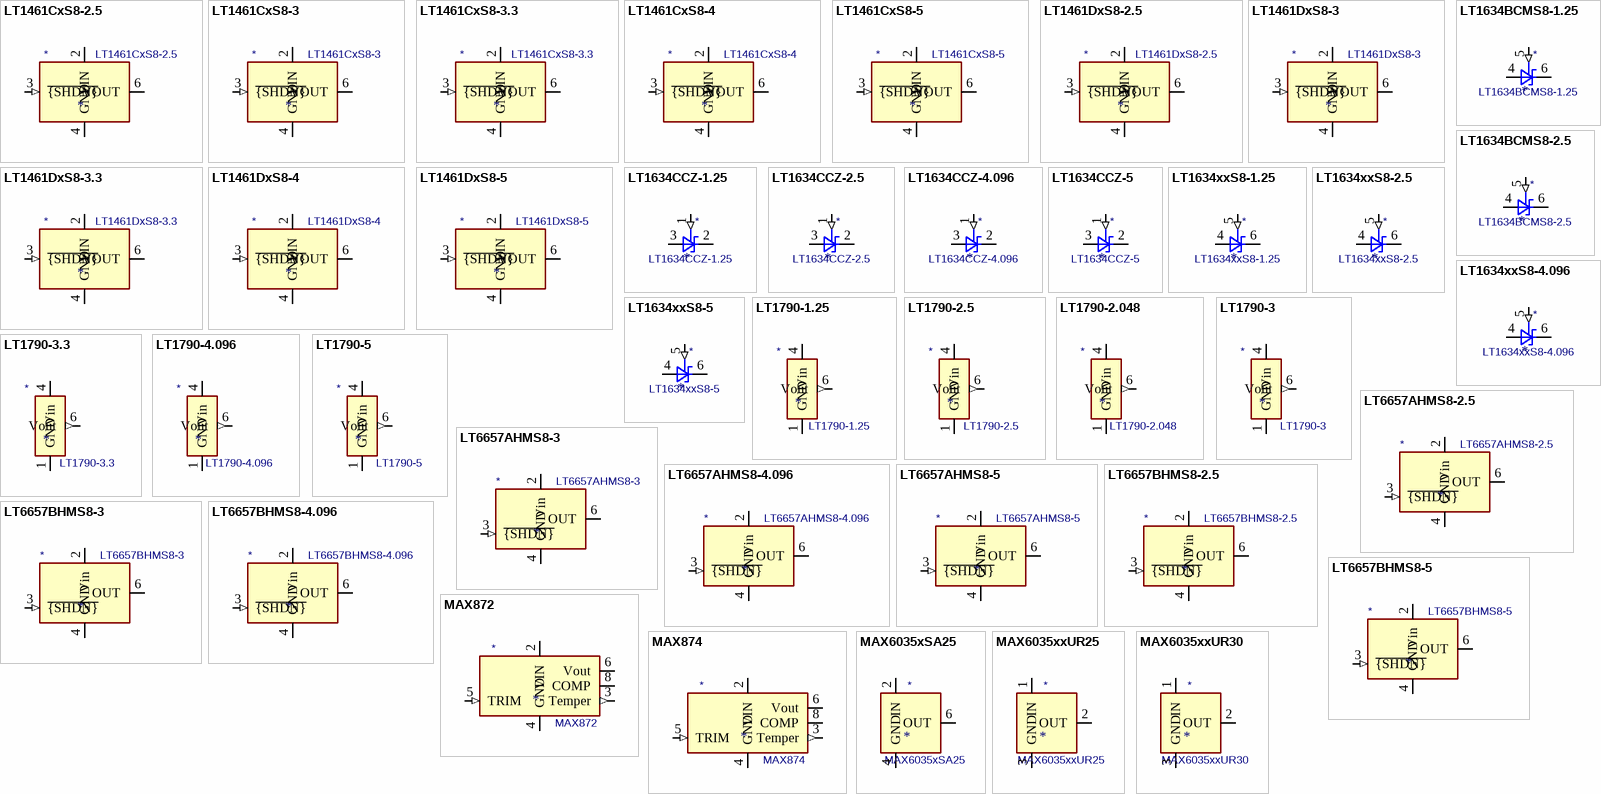
[diagram p2: symbols LT1461CxS8-2.5 to MAX6035xxUR30]

## LT1461CxS8-2.5
designator *  value LT1461CxS8-2.5
ki_keywords: voltage reference precision; ki_description: Voltage Reference, +/-0.08%, 2.5V, 100mA, 3V-20V Vin, SOIC-8; ki_fp_filters: SOIC*3.9x4.9mm*P1.27mm*; Footprint: Package_SO:SOIC-8_3.9x4.9mm_P1.27mm; Supplier: https://www.analog.com/media/en/technical-documentation/data-sheets/LT1461.pdf
footprint SOIC-8_3.9x4.9mm_P1.27mm
pins: 1 DNC (in) hidden, 2 VIN (power), 3 ~{{SHDN}} (in), 4 GND (power), 5 DNC (in) hidden, 6 VOUT (power), 7 DNC (in) hidden, 8 DNC (in) hidden

## LT1461CxS8-3
designator *  value LT1461CxS8-3
ki_keywords: voltage reference precision; ki_description: Voltage Reference, +/-0.08%, 3V, 100mA, 3.5V-20V Vin, SOIC-8; ki_fp_filters: SOIC*3.9x4.9mm*P1.27mm*; Footprint: Package_SO:SOIC-8_3.9x4.9mm_P1.27mm; Supplier: https://www.analog.com/media/en/technical-documentation/data-sheets/LT1461.pdf
footprint SOIC-8_3.9x4.9mm_P1.27mm
pins: 1 DNC (in) hidden, 2 VIN (power), 3 ~{{SHDN}} (in), 4 GND (power), 5 DNC (in) hidden, 6 VOUT (power), 7 DNC (in) hidden, 8 DNC (in) hidden

## LT1461CxS8-3.3
designator *  value LT1461CxS8-3.3
ki_keywords: voltage reference precision; ki_description: Voltage Reference, +/-0.08%, 3.3V, 100mA, 3.8V-20V Vin, SOIC-8; ki_fp_filters: SOIC*3.9x4.9mm*P1.27mm*; Footprint: Package_SO:SOIC-8_3.9x4.9mm_P1.27mm; Supplier: https://www.analog.com/media/en/technical-documentation/data-sheets/LT1461.pdf
footprint SOIC-8_3.9x4.9mm_P1.27mm
pins: 1 DNC (in) hidden, 2 VIN (power), 3 ~{{SHDN}} (in), 4 GND (power), 5 DNC (in) hidden, 6 VOUT (power), 7 DNC (in) hidden, 8 DNC (in) hidden

## LT1461CxS8-4
designator *  value LT1461CxS8-4
ki_keywords: voltage reference precision; ki_description: Voltage Reference, +/-0.08%, 4.096V, 100mA, 4.596V-20V Vin, SOIC-8; ki_fp_filters: SOIC*3.9x4.9mm*P1.27mm*; Footprint: Package_SO:SOIC-8_3.9x4.9mm_P1.27mm; Supplier: https://www.analog.com/media/en/technical-documentation/data-sheets/LT1461.pdf
footprint SOIC-8_3.9x4.9mm_P1.27mm
pins: 1 DNC (in) hidden, 2 VIN (power), 3 ~{{SHDN}} (in), 4 GND (power), 5 DNC (in) hidden, 6 VOUT (power), 7 DNC (in) hidden, 8 DNC (in) hidden

## LT1461CxS8-5
designator *  value LT1461CxS8-5
ki_keywords: voltage reference precision; ki_description: Voltage Reference, +/-0.08%, 5V, 100mA, 5.5V-20V Vin, SOIC-8; ki_fp_filters: SOIC*3.9x4.9mm*P1.27mm*; Footprint: Package_SO:SOIC-8_3.9x4.9mm_P1.27mm; Supplier: https://www.analog.com/media/en/technical-documentation/data-sheets/LT1461.pdf
footprint SOIC-8_3.9x4.9mm_P1.27mm
pins: 1 DNC (in) hidden, 2 VIN (power), 3 ~{{SHDN}} (in), 4 GND (power), 5 DNC (in) hidden, 6 VOUT (power), 7 DNC (in) hidden, 8 DNC (in) hidden

## LT1461DxS8-2.5
designator *  value LT1461DxS8-2.5
ki_keywords: voltage reference precision; ki_description: Voltage Reference, +/-0.15%, 2.5V, 100mA, 3V-20V Vin, SOIC-8; ki_fp_filters: SOIC*3.9x4.9mm*P1.27mm*; Footprint: Package_SO:SOIC-8_3.9x4.9mm_P1.27mm; Supplier: https://www.analog.com/media/en/technical-documentation/data-sheets/LT1461.pdf
footprint SOIC-8_3.9x4.9mm_P1.27mm
pins: 1 DNC (in) hidden, 2 VIN (power), 3 ~{{SHDN}} (in), 4 GND (power), 5 DNC (in) hidden, 6 VOUT (power), 7 DNC (in) hidden, 8 DNC (in) hidden

## LT1461DxS8-3
designator *  value LT1461DxS8-3
ki_keywords: voltage reference precision; ki_description: Voltage Reference, +/-0.15%, 3V, 100mA, 3.5V-20V Vin, SOIC-8; ki_fp_filters: SOIC*3.9x4.9mm*P1.27mm*; Footprint: Package_SO:SOIC-8_3.9x4.9mm_P1.27mm; Supplier: https://www.analog.com/media/en/technical-documentation/data-sheets/LT1461.pdf
footprint SOIC-8_3.9x4.9mm_P1.27mm
pins: 1 DNC (in) hidden, 2 VIN (power), 3 ~{{SHDN}} (in), 4 GND (power), 5 DNC (in) hidden, 6 VOUT (power), 7 DNC (in) hidden, 8 DNC (in) hidden

## LT1461DxS8-3.3
designator *  value LT1461DxS8-3.3
ki_keywords: voltage reference precision; ki_description: Voltage Reference, +/-0.15%, 3.3V, 100mA, 3.8V-20V Vin, SOIC-8; ki_fp_filters: SOIC*3.9x4.9mm*P1.27mm*; Footprint: Package_SO:SOIC-8_3.9x4.9mm_P1.27mm; Supplier: https://www.analog.com/media/en/technical-documentation/data-sheets/LT1461.pdf
footprint SOIC-8_3.9x4.9mm_P1.27mm
pins: 1 DNC (in) hidden, 2 VIN (power), 3 ~{{SHDN}} (in), 4 GND (power), 5 DNC (in) hidden, 6 VOUT (power), 7 DNC (in) hidden, 8 DNC (in) hidden

## LT1461DxS8-4
designator *  value LT1461DxS8-4
ki_keywords: voltage reference precision; ki_description: Voltage Reference, +/-0.15%, 4.096V, 100mA, 4.596V-20V Vin, SOIC-8; ki_fp_filters: SOIC*3.9x4.9mm*P1.27mm*; Footprint: Package_SO:SOIC-8_3.9x4.9mm_P1.27mm; Supplier: https://www.analog.com/media/en/technical-documentation/data-sheets/LT1461.pdf
footprint SOIC-8_3.9x4.9mm_P1.27mm
pins: 1 DNC (in) hidden, 2 VIN (power), 3 ~{{SHDN}} (in), 4 GND (power), 5 DNC (in) hidden, 6 VOUT (power), 7 DNC (in) hidden, 8 DNC (in) hidden

## LT1461DxS8-5
designator *  value LT1461DxS8-5
ki_keywords: voltage reference precision; ki_description: Voltage Reference, +/-0.15%, 5V, 100mA, 5.5V-20V Vin, SOIC-8; ki_fp_filters: SOIC*3.9x4.9mm*P1.27mm*; Footprint: Package_SO:SOIC-8_3.9x4.9mm_P1.27mm; Supplier: https://www.analog.com/media/en/technical-documentation/data-sheets/LT1461.pdf
footprint SOIC-8_3.9x4.9mm_P1.27mm
pins: 1 DNC (in) hidden, 2 VIN (power), 3 ~{{SHDN}} (in), 4 GND (power), 5 DNC (in) hidden, 6 VOUT (power), 7 DNC (in) hidden, 8 DNC (in) hidden

## LT1634BCMS8-1.25
designator *  value LT1634BCMS8-1.25
ki_keywords: voltage reference Micropower; ki_description: 1.25V Micropower Precision Shunt Voltage Reference, MSOP-8; ki_fp_filters: MSOP?8*3x3mm*P0.65mm*; Footprint: Package_SO:MSOP-8_3x3mm_P0.65mm; Supplier: https://www.analog.com/media/en/technical-documentation/data-sheets/1634ff.pdf
footprint MSOP-8_3x3mm_P0.65mm
pins: 4 A, 5 Test (in), 6 K

## LT1634BCMS8-2.5
designator *  value LT1634BCMS8-2.5
ki_keywords: voltage reference Micropower; ki_description: 2.5V Micropower Precision Shunt Voltage Reference, MSOP-8; ki_fp_filters: MSOP?8*3x3mm*P0.65mm*; Footprint: Package_SO:MSOP-8_3x3mm_P0.65mm; Supplier: https://www.analog.com/media/en/technical-documentation/data-sheets/1634ff.pdf
footprint MSOP-8_3x3mm_P0.65mm
pins: 4 A, 5 Test (in), 6 K

## LT1634CCZ-1.25
designator *  value LT1634CCZ-1.25
ki_keywords: voltage reference Micropower; ki_description: 1.25V Micropower Precision Shunt Voltage Reference, TO-92; ki_fp_filters: TO?92*; Footprint: Package_TO_SOT_THT:TO-92_Inline; Supplier: https://www.analog.com/media/en/technical-documentation/data-sheets/1634ff.pdf
footprint TO-92_Inline
pins: 1 Test (in), 2 K, 3 A

## LT1634CCZ-2.5
designator *  value LT1634CCZ-2.5
ki_keywords: voltage reference Micropower; ki_description: 2.5V Micropower Precision Shunt Voltage Reference, TO-92; ki_fp_filters: TO?92*; Footprint: Package_TO_SOT_THT:TO-92_Inline; Supplier: https://www.analog.com/media/en/technical-documentation/data-sheets/1634ff.pdf
footprint TO-92_Inline
pins: 1 Test (in), 2 K, 3 A

## LT1634CCZ-4.096
designator *  value LT1634CCZ-4.096
ki_keywords: voltage reference Micropower; ki_description: 4.096V Micropower Precision Shunt Voltage Reference, TO-92; ki_fp_filters: TO?92*; Footprint: Package_TO_SOT_THT:TO-92_Inline; Supplier: https://www.analog.com/media/en/technical-documentation/data-sheets/1634ff.pdf
footprint TO-92_Inline
pins: 1 Test (in), 2 K, 3 A

## LT1634CCZ-5
designator *  value LT1634CCZ-5
ki_keywords: voltage reference Micropower; ki_description: 5V Micropower Precision Shunt Voltage Reference, TO-92; ki_fp_filters: TO?92*; Footprint: Package_TO_SOT_THT:TO-92_Inline; Supplier: https://www.analog.com/media/en/technical-documentation/data-sheets/1634ff.pdf
footprint TO-92_Inline
pins: 1 Test (in), 2 K, 3 A

## LT1634xxS8-1.25
designator *  value LT1634xxS8-1.25
ki_keywords: voltage reference Micropower; ki_description: 1.25V Micropower Precision Shunt Voltage Reference, SO-8; ki_fp_filters: SO?8*3.9x4.9mm*P1.27mm*; Footprint: Package_SO:SO-8_3.9x4.9mm_P1.27mm; Supplier: https://www.analog.com/media/en/technical-documentation/data-sheets/1634ff.pdf
footprint SO-8_3.9x4.9mm_P1.27mm
pins: 4 A, 5 Test (in), 6 K

## LT1634xxS8-2.5
designator *  value LT1634xxS8-2.5
ki_keywords: voltage reference Micropower; ki_description: 2.5V Micropower Precision Shunt Voltage Reference, SO-8; ki_fp_filters: SO?8*3.9x4.9mm*P1.27mm*; Footprint: Package_SO:SO-8_3.9x4.9mm_P1.27mm; Supplier: https://www.analog.com/media/en/technical-documentation/data-sheets/1634ff.pdf
footprint SO-8_3.9x4.9mm_P1.27mm
pins: 4 A, 5 Test (in), 6 K

## LT1634xxS8-4.096
designator *  value LT1634xxS8-4.096
ki_keywords: voltage reference Micropower; ki_description: 4.096V Micropower Precision Shunt Voltage Reference, SO-8; ki_fp_filters: SO?8*3.9x4.9mm*P1.27mm*; Footprint: Package_SO:SO-8_3.9x4.9mm_P1.27mm; Supplier: https://www.analog.com/media/en/technical-documentation/data-sheets/1634ff.pdf
footprint SO-8_3.9x4.9mm_P1.27mm
pins: 4 A, 5 Test (in), 6 K

## LT1634xxS8-5
designator *  value LT1634xxS8-5
ki_keywords: voltage reference Micropower; ki_description: 5V Micropower Precision Shunt Voltage Reference, SO-8; ki_fp_filters: SO?8*3.9x4.9mm*P1.27mm*; Footprint: Package_SO:SO-8_3.9x4.9mm_P1.27mm; Supplier: https://www.analog.com/media/en/technical-documentation/data-sheets/1634ff.pdf
footprint SO-8_3.9x4.9mm_P1.27mm
pins: 4 A, 5 Test (in), 6 K

## LT1790-1.25
designator *  value LT1790-1.25
ki_keywords: voltage reference Micropower; ki_description: 1.25V Voltage Reference, Low Dropout, Micropower, TSOT-23-6; ki_fp_filters: TSOT?23?6*; Footprint: Package_TO_SOT_SMD:TSOT-23-6; Supplier: https://www.analog.com/media/en/technical-documentation/data-sheets/1790fc.pdf
footprint TSOT-23-6
pins: 1 GND (power), 2 GND hidden, 4 Vin (power), 6 Vout (out)

## LT1790-2.5
designator *  value LT1790-2.5
ki_keywords: voltage reference Micropower; ki_description: 2.5V Voltage Reference, Low Dropout, Micropower, TSOT-23-6; ki_fp_filters: TSOT?23?6*; Footprint: Package_TO_SOT_SMD:TSOT-23-6; Supplier: https://www.analog.com/media/en/technical-documentation/data-sheets/1790fc.pdf
footprint TSOT-23-6
pins: 1 GND (power), 2 GND hidden, 4 Vin (power), 6 Vout (out)

## LT1790-2.048
designator *  value LT1790-2.048
ki_keywords: voltage reference Micropower; ki_description: 2.048V Voltage Reference, Low Dropout, Micropower, TSOT-23-6; ki_fp_filters: TSOT?23?6*; Footprint: Package_TO_SOT_SMD:TSOT-23-6; Supplier: https://www.analog.com/media/en/technical-documentation/data-sheets/1790fc.pdf
footprint TSOT-23-6
pins: 1 GND (power), 2 GND hidden, 4 Vin (power), 6 Vout (out)

## LT1790-3
designator *  value LT1790-3
ki_keywords: voltage reference Micropower; ki_description: 3V Voltage Reference, Low Dropout, Micropower, TSOT-23-6; ki_fp_filters: TSOT?23?6*; Footprint: Package_TO_SOT_SMD:TSOT-23-6; Supplier: https://www.analog.com/media/en/technical-documentation/data-sheets/1790fc.pdf
footprint TSOT-23-6
pins: 1 GND (power), 2 GND hidden, 4 Vin (power), 6 Vout (out)

## LT1790-3.3
designator *  value LT1790-3.3
ki_keywords: voltage reference Micropower; ki_description: 3.3V Voltage Reference, Low Dropout, Micropower, TSOT-23-6; ki_fp_filters: TSOT?23?6*; Footprint: Package_TO_SOT_SMD:TSOT-23-6; Supplier: https://www.analog.com/media/en/technical-documentation/data-sheets/1790fc.pdf
footprint TSOT-23-6
pins: 1 GND (power), 2 GND hidden, 4 Vin (power), 6 Vout (out)

## LT1790-4.096
designator *  value LT1790-4.096
ki_keywords: voltage reference Micropower; ki_description: 4.096V Voltage Reference, Low Dropout, Micropower, TSOT-23-6; ki_fp_filters: TSOT?23?6*; Footprint: Package_TO_SOT_SMD:TSOT-23-6; Supplier: https://www.analog.com/media/en/technical-documentation/data-sheets/1790fc.pdf
footprint TSOT-23-6
pins: 1 GND (power), 2 GND hidden, 4 Vin (power), 6 Vout (out)

## LT1790-5
designator *  value LT1790-5
ki_keywords: voltage reference Micropower; ki_description: 5V Voltage Reference, Low Dropout, Micropower, TSOT-23-6; ki_fp_filters: TSOT?23?6*; Footprint: Package_TO_SOT_SMD:TSOT-23-6; Supplier: https://www.analog.com/media/en/technical-documentation/data-sheets/1790fc.pdf
footprint TSOT-23-6
pins: 1 GND (power), 2 GND hidden, 4 Vin (power), 6 Vout (out)

## LT6657AHMS8-2.5
designator *  value LT6657AHMS8-2.5
ki_keywords: voltage reference vref; ki_description: Precision voltage reference, 40V input, 10mA output, 1.5ppm/C drift, 2.5V output, MSOP-8; ki_fp_filters: MSOP*3x3mm*P0.65mm*; Footprint: Package_SO:MSOP-8_3x3mm_P0.65mm; Supplier: https://www.analog.com/media/en/technical-documentation/data-sheets/6657fd.pdf
footprint MSOP-8_3x3mm_P0.65mm
pins: 1 DNC (in) hidden, 2 Vin (power), 3 ~{{SHDN}} (in), 4 GND (power), 5 DNC (in) hidden, 6 OUT (power), 7 DNC (in) hidden, 8 DNC (in) hidden

## LT6657AHMS8-3
designator *  value LT6657AHMS8-3
ki_keywords: voltage reference vref; ki_description: Precision voltage reference, 40V input, 10mA output, 1.5ppm/C drift, 3.0V output, MSOP-8; ki_fp_filters: MSOP*3x3mm*P0.65mm*; Footprint: Package_SO:MSOP-8_3x3mm_P0.65mm; Supplier: https://www.analog.com/media/en/technical-documentation/data-sheets/6657fd.pdf
footprint MSOP-8_3x3mm_P0.65mm
pins: 1 DNC (in) hidden, 2 Vin (power), 3 ~{{SHDN}} (in), 4 GND (power), 5 DNC (in) hidden, 6 OUT (power), 7 DNC (in) hidden, 8 DNC (in) hidden

## LT6657AHMS8-4.096
designator *  value LT6657AHMS8-4.096
ki_keywords: voltage reference vref; ki_description: Precision voltage reference, 40V input, 10mA output, 1.5ppm/C drift, 4.096V output, MSOP-8; ki_fp_filters: MSOP*3x3mm*P0.65mm*; Footprint: Package_SO:MSOP-8_3x3mm_P0.65mm; Supplier: https://www.analog.com/media/en/technical-documentation/data-sheets/6657fd.pdf
footprint MSOP-8_3x3mm_P0.65mm
pins: 1 DNC (in) hidden, 2 Vin (power), 3 ~{{SHDN}} (in), 4 GND (power), 5 DNC (in) hidden, 6 OUT (power), 7 DNC (in) hidden, 8 DNC (in) hidden

## LT6657AHMS8-5
designator *  value LT6657AHMS8-5
ki_keywords: voltage reference vref; ki_description: Precision voltage reference, 40V input, 10mA output, 1.5ppm/C drift, 5.0V output, MSOP-8; ki_fp_filters: MSOP*3x3mm*P0.65mm*; Footprint: Package_SO:MSOP-8_3x3mm_P0.65mm; Supplier: https://www.analog.com/media/en/technical-documentation/data-sheets/6657fd.pdf
footprint MSOP-8_3x3mm_P0.65mm
pins: 1 DNC (in) hidden, 2 Vin (power), 3 ~{{SHDN}} (in), 4 GND (power), 5 DNC (in) hidden, 6 OUT (power), 7 DNC (in) hidden, 8 DNC (in) hidden

## LT6657BHMS8-2.5
designator *  value LT6657BHMS8-2.5
ki_keywords: voltage reference vref; ki_description: Precision voltage reference, 40V input, 10mA output, 3.0ppm/C drift, 2.5V output, MSOP-8; ki_fp_filters: MSOP*3x3mm*P0.65mm*; Footprint: Package_SO:MSOP-8_3x3mm_P0.65mm; Supplier: https://www.analog.com/media/en/technical-documentation/data-sheets/6657fd.pdf
footprint MSOP-8_3x3mm_P0.65mm
pins: 1 DNC (in) hidden, 2 Vin (power), 3 ~{{SHDN}} (in), 4 GND (power), 5 DNC (in) hidden, 6 OUT (power), 7 DNC (in) hidden, 8 DNC (in) hidden

## LT6657BHMS8-3
designator *  value LT6657BHMS8-3
ki_keywords: voltage reference vref; ki_description: Precision voltage reference, 40V input, 10mA output, 3.0ppm/C drift, 3.0V output, MSOP-8; ki_fp_filters: MSOP*3x3mm*P0.65mm*; Footprint: Package_SO:MSOP-8_3x3mm_P0.65mm; Supplier: https://www.analog.com/media/en/technical-documentation/data-sheets/6657fd.pdf
footprint MSOP-8_3x3mm_P0.65mm
pins: 1 DNC (in) hidden, 2 Vin (power), 3 ~{{SHDN}} (in), 4 GND (power), 5 DNC (in) hidden, 6 OUT (power), 7 DNC (in) hidden, 8 DNC (in) hidden

## LT6657BHMS8-4.096
designator *  value LT6657BHMS8-4.096
ki_keywords: voltage reference vref; ki_description: Precision voltage reference, 40V input, 10mA output, 3ppm/C drift, 4.096V output, MSOP-8; ki_fp_filters: MSOP*3x3mm*P0.65mm*; Footprint: Package_SO:MSOP-8_3x3mm_P0.65mm; Supplier: https://www.analog.com/media/en/technical-documentation/data-sheets/6657fd.pdf
footprint MSOP-8_3x3mm_P0.65mm
pins: 1 DNC (in) hidden, 2 Vin (power), 3 ~{{SHDN}} (in), 4 GND (power), 5 DNC (in) hidden, 6 OUT (power), 7 DNC (in) hidden, 8 DNC (in) hidden

## LT6657BHMS8-5
designator *  value LT6657BHMS8-5
ki_keywords: voltage reference vref; ki_description: Precision voltage reference, 40V input, 10mA output, 3.0ppm/C drift, 5.0V output, MSOP-8; ki_fp_filters: MSOP*3x3mm*P0.65mm*; Footprint: Package_SO:MSOP-8_3x3mm_P0.65mm; Supplier: https://www.analog.com/media/en/technical-documentation/data-sheets/6657fd.pdf
footprint MSOP-8_3x3mm_P0.65mm
pins: 1 DNC (in) hidden, 2 Vin (power), 3 ~{{SHDN}} (in), 4 GND (power), 5 DNC (in) hidden, 6 OUT (power), 7 DNC (in) hidden, 8 DNC (in) hidden

## MAX872
designator *  value MAX872
ki_keywords: Low-Dropout Precision Voltage Reference; ki_description: 10µA Low-Dropout Precision Voltage Reference, SO-8/DIP-8; ki_fp_filters: DIP*W7.62mm* SOIC*3.9x4.9mm*P1.27mm*; Supplier: https://pdfserv.maximintegrated.com/en/ds/MAX872-MAX874.pdf
pins: 1 IC (in) hidden, 2 VIN (power), 3 Temper (out), 4 GND (power), 5 TRIM (in), 6 Vout (power), 7 IC (in) hidden, 8 COMP

## MAX874
designator *  value MAX874
ki_keywords: Low-Dropout Precision Voltage Reference; ki_description: 10µA Low-Dropout Precision Voltage Reference, SO-8/DIP-8; ki_fp_filters: DIP*W7.62mm* SOIC*3.9x4.9mm*P1.27mm*; Supplier: https://pdfserv.maximintegrated.com/en/ds/MAX872-MAX874.pdf
pins: 1 IC (in) hidden, 2 VIN (power), 3 Temper (out), 4 GND (power), 5 TRIM (in), 6 Vout (power), 7 IC (in) hidden, 8 COMP